# Altium footprint library SM05B-GHS-TB_LF__SN_.PcbLib: 1 footprints
Each footprint in its own frame and in the unit in brackets; x right, y up, seen from the top. Pads: shape width x height; smd on the part's side, far side on the other; paste and mask are expansions set on the pad; w line width, h text height; cw(c..) or ccw(c..) is an arc to the next point about the centre after c.
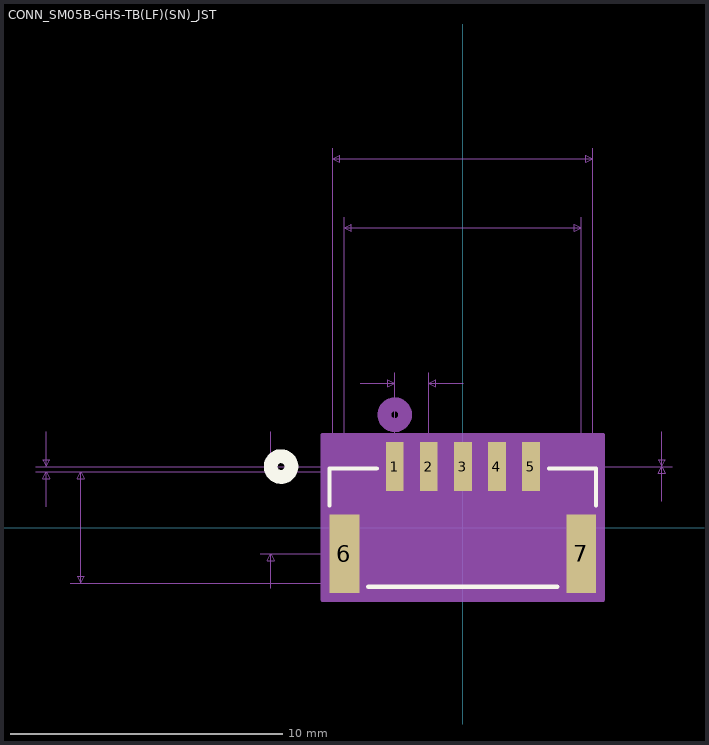
[diagram p0: the footprint, top view; thin cyan lines are the x and y axes]

## CONN_SM05B-GHS-TB(LF)(SN)_JST [mil]
pads (7):
  rect 26x71 smd paste+0 mask+0: 1(-98.43,88.37) 2(-49.21,88.37) 3(0,88.37) 4(49.21,88.37) 5(98.43,88.37)
  rect 43x113.39 smd: 6(-171.26,-37.61) 7(171.26,-37.61)
Top Overlay:
  circle w20: c-263,88.37 r15
  lines w6: -193,32.18 -193,85.5 -124.53,85.5 ; -136.66,-85.5 136.66,-85.5 ; 124.53,85.5 193,85.5 193,32.18
Bottom Overlay:
  circle w20: c-263,88.37 r15
Mechanical 5:
  region: -203,95.5 203,95.5 203,-95.5 -203,-95.5
Mechanical 7:
  lines w1: -617.76,80.5 -188,80.5 ; -617.76,88.37 0,88.37 -292.76,88.37 ; -602.76,30.5 -602.76,80.5 ; -602.76,138.37 -602.76,88.37 ; -567.76,-80.5 -188,-80.5 ; -567.76,80.5 -188,80.5 ; -292.76,-37.61 171.26,-37.61 171.26,448.87 ; -277.76,-87.61 -277.76,-37.61 ; -277.76,138.37 -277.76,88.37 ; -188,548.87 -188,80.5 ; -171.26,-37.61 -171.26,448.87 ; -148.43,208.87 -98.43,208.87 ; -98.43,223.87 -98.43,88.37 ; -49.21,88.37 -49.21,223.87 ; 0.79,208.87 -49.21,208.87 ; 188,80.5 188,548.87 ; 288,38.37 288,88.37 ; 288,138.37 288,88.37 ; -602.76,80.5 -607.76,70.5 -597.76,70.5 -602.76,80.5 ; -602.76,88.37 -607.76,98.37 -597.76,98.37 -602.76,88.37 ; -552.76,-80.5 -552.76,80.5 ; -552.76,-80.5 -557.76,-70.5 -547.76,-70.5 -552.76,-80.5 ; -552.76,80.5 -557.76,70.5 -547.76,70.5 -552.76,80.5 ; -277.76,-37.61 -282.76,-47.61 -272.76,-47.61 -277.76,-37.61 ; -277.76,88.37 -282.76,98.37 -272.76,98.37 -277.76,88.37 ; -188,533.87 188,533.87 ; -188,533.87 -178,538.87 -178,528.87 -188,533.87 ; -171.26,433.87 171.26,433.87 ; -171.26,433.87 -161.26,438.87 -161.26,428.87 -171.26,433.87 ; -98.43,88.37 303,88.37 -98.43,88.37 ; -98.43,208.87 -108.43,213.87 -108.43,203.87 -98.43,208.87 ; -49.21,208.87 -39.21,213.87 -39.21,203.87 -49.21,208.87 ; 171.26,433.87 161.26,438.87 161.26,428.87 171.26,433.87 ; 188,533.87 178,538.87 178,528.87 188,533.87 ; 288,88.37 283,98.37 293,98.37 288,88.37 ; 288,88.37 283,78.37 293,78.37 288,88.37
  text "Default Padstyle: RX26Y71D0T" at -350,-254.31 h50
  text "1st Mtg Padstyle: RX43Y113p39D0T" at -400,-329.31 h50
  text "2nd Mtg Padstyle: EX70Y70D70P" at -362.5,-404.31 h50
  text "3rd Mtg Padstyle: EX70Y70D70P" at -362.5,-479.31 h50
  text "Left Mtg Padstyle: EX60Y60D30P" at -375,-554.31 h50
  text "Right Mtg Padstyle: EX51Y51D51P" at -387.5,-629.31 h50
  text "Alt Padstyle 1: OX60Y90D30P" at -337.5,-704.31 h50
  text "Alt Padstyle 2: OX90Y60D30P" at -337.5,-779.31 h50
  text "0.049in/1.25mm" at -161.32,228.87 h25
  text "0.343in/8.7mm" at -81.25,453.87 h25
  text "0.376in/9.55mm" at -87.5,553.87 h25
  text "0in/0mm" at 308,75.87 h25
  text "-0.126in/-3.2mm" at -485.26,12.88 h25
  text "-0.008in/-0.2mm" at -810.26,71.94 h25
  text "0.161in/4.089mm" at -760.26,-12.5 h25
Mechanical 13:
  circle w20: c-98.43,163.37 r15
  lines w1: -188,-80.5 188,-80.5 188,80.5 -188,80.5 -188,-80.5
Mechanical 15:
  region: 202.76,133.87 -202.76,133.87 -202.76,-104.31 202.76,-104.31
  lines w6: -202.76,-104.31 -202.76,133.87 202.76,133.87 202.76,-104.31 -202.76,-104.31
3D body: height 10, standoff 0, extent 0,0 10,10